# Altium schematic symbol library TPS63020QDSJTQ1.SchLib: 2 symbols
Pins are listed as number, name and electrical type; pins without a type are passive.

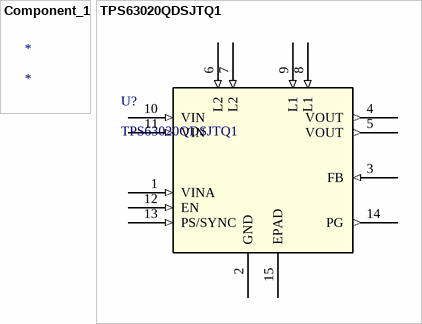
[diagram p0: symbols Component_1 to TPS63020QDSJTQ1]

## Component_1
designator *

## TPS63020QDSJTQ1
designator U?
No Description Available; Mfr_Name: Texas Instruments; Copyright: Copyright (C) 2022 Ultra Librarian. All rights reserved.; Manufacturer_Part_Number: TPS63020QDSJTQ1; RefDes: RefDes; Type: DEV
footprint DSJ14_2P85X1P58_TEX
pins: 1 VINA (in), 2 GND (power), 3 FB (in), 4 VOUT (out), 5 VOUT (out), 6 L2 (in), 7 L2 (in), 8 L1 (in), 9 L1 (in), 10 VIN (in), 11 VIN (in), 12 EN (in), 13 PS/SYNC (in), 14 PG (out), 15 EPAD